# EAGLE library part 4816P-R2R-103LF (library 4816P-R2R-103LF)
10k, 20k Ohm +/-2% 125mW Power Per Element R2R Ladder 16 Resistor Network/Array +/-100ppm/C 16-SOIC (0.220", 5.59mm Width) Source: Datasheet <https://www.bourns.com/docs/product-datasheets/4800p.pdf?sfvrsn=a1f0c8d9_7>
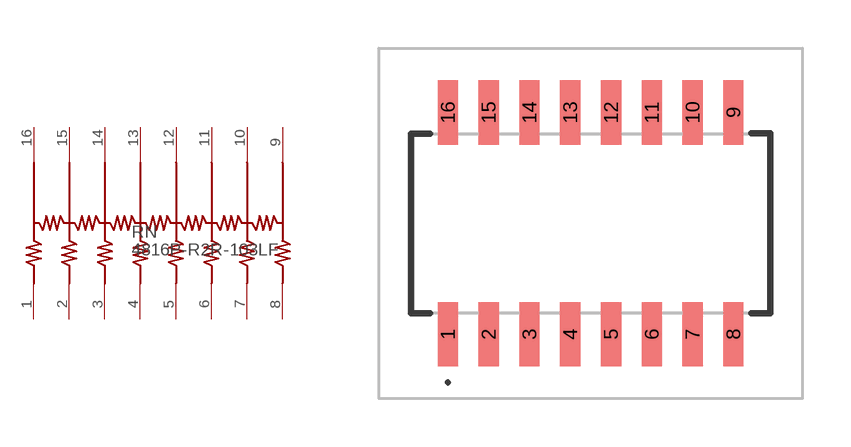
[diagram p0: symbol with the pads of 4816PR2R103LF; footprint 4816PR2R103LF]

Designator prefix RN

## 4816P-R2R-103LF (Description: 10k, 20k Ohm +/-2% 125mW Power Per Element R2R Ladder 16 Resistor Network/Array +/-100ppm/C 16-SOIC (0.220", 5.59mm Width); Height: 2.4mm; Manufacturer_Name: Bourns; Manufacturer_Part_Number: 4816P-R2R-103LF; Mouser_Part_Number: 652-4816P-R2R-103LF; Mouser_Price-Stock: https://www.mouser.co.uk/ProductDetail/Bourns/4816P-R2R-103LF?qs=ywolDd32d7%2FY0wPpCpCeWQ%3D%3D)  [4816PR2R103LF]
1  1
2  2
3  3
4  4
5  5
6  6
7  7
8  8
9  9
10  10
11  11
12  12
13  13
14  14
15  15
16  16

## Footprint 4816PR2R103LF (pad centres in mm)
SOM-16
smd 0.63 x 2: 1 -4.445,-3.45; 2 -3.175,-3.45; 3 -1.905,-3.45; 4 -0.635,-3.45; 5 0.635,-3.45; 6 1.905,-3.45; 7 3.175,-3.45; 8 4.445,-3.45; 9 4.445,3.45; 10 3.175,3.45; 11 1.905,3.45; 12 0.635,3.45; 13 -0.635,3.45; 14 -1.905,3.45; 15 -3.175,3.45; 16 -4.445,3.45